# Altium footprint library RMCF0603FT330R.PcbLib: 3 footprints
Each footprint in its own frame and in the unit in brackets; x right, y up, seen from the top. Pads: shape width x height; smd on the part's side, far side on the other; paste and mask are expansions set on the pad; w line width, h text height; cw(c..) or ccw(c..) is an arc to the next point about the centre after c.
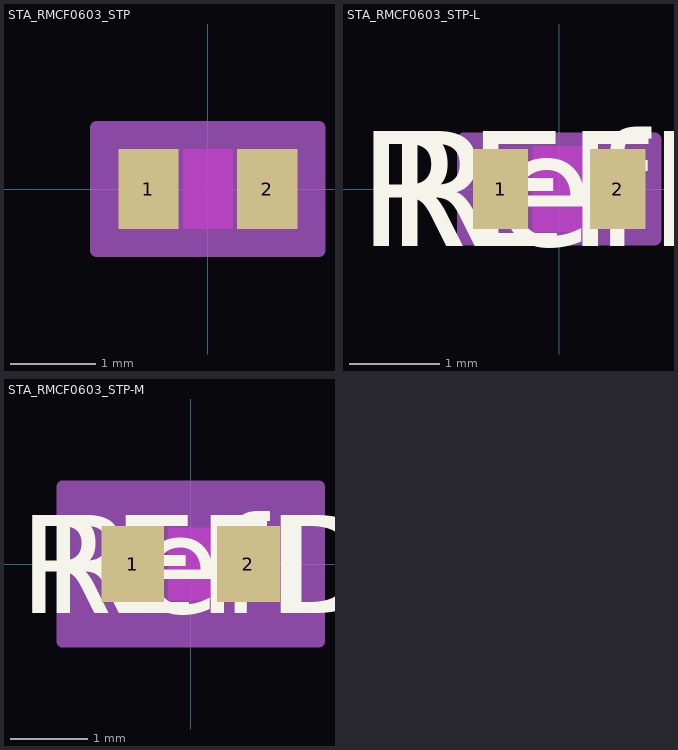
[diagram p0: the footprints below, top view; thin cyan lines are the x and y axes]

## STA_RMCF0603_STP [mil]
pads (2):
  rect 28x37 smd paste+0 mask+0: 1(-27.5,0) 2(27.5,0)
Top Layer keep-out:
  region: -11.5,-16.5 -11.5,16.5 11.5,16.5 11.5,-16.5
Top Overlay:
Keep-Out Layer:
  region: -11.5,-18.5 -11.5,18.5 11.5,18.5 11.5,-18.5
Mechanical 13:
  lines w1: -33.5,-18.5 -33.5,18.5 ; -33.5,-18.5 33.5,-18.5 ; -33.5,-18.5 -13.5,-18.5 -13.5,18.5 -33.5,18.5 ; -33.5,-18.5 -33.5,18.5 ; -33.5,18.5 33.5,18.5 ; 33.5,-18.5 33.5,18.5 ; 33.5,-18.5 33.5,18.5 ; 33.5,-18.5 13.5,-18.5 13.5,18.5 33.5,18.5
Mechanical 15:
  region: 51.5,-28.5 -51.5,-28.5 -51.5,28.5 51.5,28.5
  lines w6: -51.5,-28.5 51.5,-28.5 51.5,28.5 -51.5,28.5 -51.5,-28.5
3D body "STA_RMCF0603_STP.step": height 22.01, standoff 0, extent -33.5,-18.5 33.5,18.5

## STA_RMCF0603_STP-L [mil]
pads (2):
  rect 24x35 smd paste+0 mask+0: 1(-25.5,0) 2(25.5,0)
Top Layer keep-out:
  region: -11.5,-16.5 -11.5,16.5 11.5,16.5 11.5,-16.5
Top Overlay:
  text "RefDes" at -75,-25 h50
  text "REFDES" at -87.5,-25 h50
Keep-Out Layer:
  region: -11.5,-18.5 -11.5,18.5 11.5,18.5 11.5,-18.5
Mechanical 13:
  lines w1: -33.5,-18.5 -33.5,18.5 ; -33.5,-18.5 -13.5,-18.5 -13.5,18.5 -33.5,18.5 ; -33.5,-18.5 33.5,-18.5 ; -33.5,-18.5 -33.5,18.5 ; -33.5,18.5 33.5,18.5 ; 33.5,-18.5 13.5,-18.5 13.5,18.5 33.5,18.5 ; 33.5,-18.5 33.5,18.5 ; 33.5,-18.5 33.5,18.5
  text "RefDes2" at -87.5,-25 h50
Mechanical 15:
  region: 41.5,-21.5 -41.5,-21.5 -41.5,21.5 41.5,21.5
  lines w6: -41.5,-21.5 -41.5,21.5 41.5,21.5 41.5,-21.5 -41.5,-21.5
3D body "STA_RMCF0603_STP.step": height 22.01, standoff 0, extent -33.5,-18.5 33.5,18.5

## STA_RMCF0603_STP-M [mil]
pads (2):
  rect 32x39 smd paste+0 mask+0: 1(-29.5,0) 2(29.5,0)
Top Layer keep-out:
  region: -11.5,-16.5 -11.5,16.5 11.5,16.5 11.5,-16.5
Top Overlay:
  text "RefDes" at -75,-25 h50
  text "REFDES" at -87.5,-25 h50
Keep-Out Layer:
  region: -11.5,-18.5 -11.5,18.5 11.5,18.5 11.5,-18.5
Mechanical 13:
  lines w1: -33.5,-18.5 -33.5,18.5 ; -33.5,-18.5 -13.5,-18.5 -13.5,18.5 -33.5,18.5 ; -33.5,-18.5 33.5,-18.5 ; -33.5,-18.5 -33.5,18.5 ; -33.5,18.5 33.5,18.5 ; 33.5,-18.5 13.5,-18.5 13.5,18.5 33.5,18.5 ; 33.5,-18.5 33.5,18.5 ; 33.5,-18.5 33.5,18.5
  text "RefDes2" at -87.5,-25 h50
Mechanical 15:
  region: 65.5,-39.5 -65.5,-39.5 -65.5,39.5 65.5,39.5
  lines w6: -65.5,-39.5 -65.5,39.5 65.5,39.5 65.5,-39.5 -65.5,-39.5
3D body "STA_RMCF0603_STP.step": height 22.01, standoff 0, extent -33.5,-18.5 33.5,18.5